# Altium schematic symbol library Connectors.SchLib: 93 symbols
Pins are listed as number, name and electrical type; pins without a type are passive.

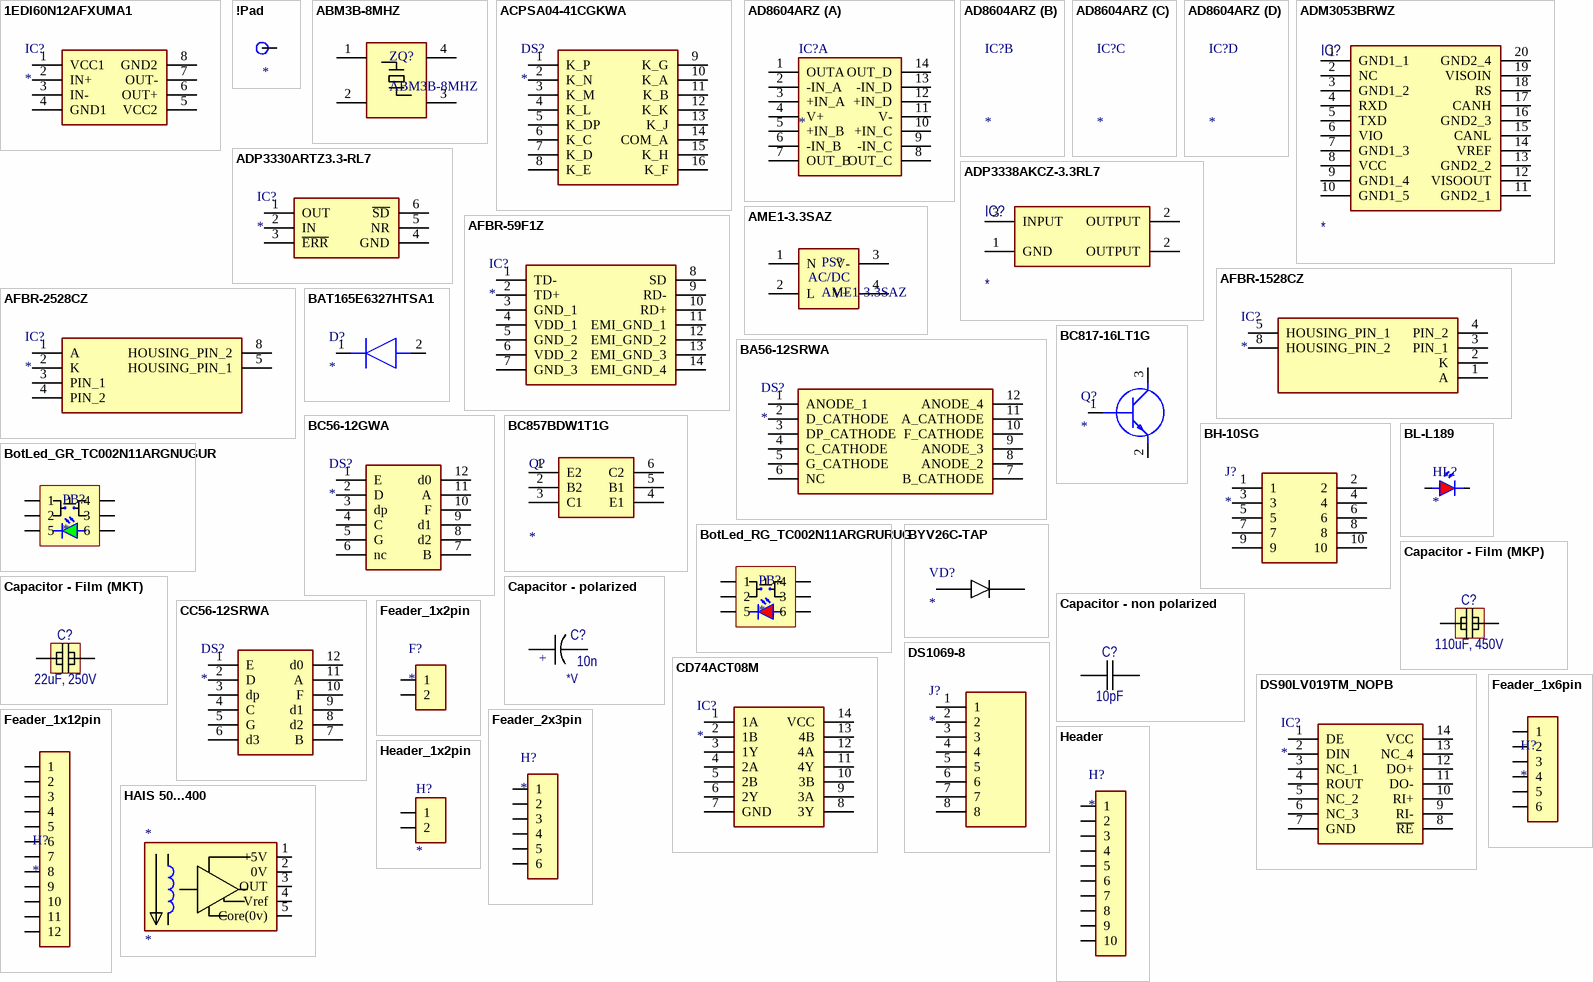
[diagram p0: symbols 1EDI60N12AFXUMA1 to Header_1x2pin]

## 1EDI60N12AFXUMA1
designator IC?
Integrated Circuit; Manufacturer_Name: Infineon; Manufacturer_Part_Number: 1EDI60N12AFXUMA1; Datasheet Link: https://www.infineon.com/dgdl/Infineon-1EDI60N12AF-DS-v02_00-EN.pdf?fileId=db3a3043427ac3e201428e5da08f372a; Height: 1.75mm; Mouser Part Number: 726-1EDI60N12AFXUMA1; Mouser Price/Stock: https://www.mouser.co.uk/ProductDetail/Infineon-Technologies/1EDI60N12AFXUMA1?qs=3Bi3m9r5MQZ%2FPKSdeeAtFg%3D%3D; Arrow Part Number: 1EDI60N12AFXUMA1; Arrow Price/Stock: https://www.arrow.com/en/products/1edi60n12afxuma1/infineon-technologies-ag?region=nac
footprint SOIC127P600X175-8N
pins: 1 VCC1, 2 IN+, 3 IN-, 4 GND1, 5 VCC2, 6 OUT+, 7 OUT-, 8 GND2

## !Pad
designator Pad?
System: Connector; NetName: *
footprint Pad_2mm
footprint Pad_3mm
footprint Pad_4mm
pins: 1

## ABM3B-8MHZ
designator ZQ?
footprint Quartz 5x3.2 mm
pins: 1, 2 GND, 3, 4 GND
2 alternate drawings of the same symbol

## ACPSA04-41CGKWA
designator DS?
Display; Manufacturer_Name: Kingbright; Manufacturer_Part_Number: ACPSA04-41CGKWA; Datasheet Link: https://datasheet.datasheetarchive.com/originals/dk/DKDS-14/260750.pdf; Height: 4mm; Mouser Part Number: 604-ACPSA04-41CGKWA; Mouser Price/Stock: https://www.mouser.co.uk/ProductDetail/Kingbright/ACPSA04-41CGKWA/?qs=f499HRGa1RkJ71DaUd7G2A%3D%3D
footprint ACPSA0441CGKWA
pins: 1 K_P, 2 K_N, 3 K_M, 4 K_L, 5 K_DP, 6 K_C, 7 K_D, 8 K_E, 9 K_G, 10 K_A, 11 K_B, 12 K_K, 13 K_J, 14 COM_A, 15 K_H, 16 K_F

## AD8604ARZ
designator IC?
Integrated Circuit; Manufacturer_Name: Analog Devices; Manufacturer_Part_Number: AD8604ARZ; Datasheet Link: http://www.analog.com/static/imported-files/data_sheets/AD8601_8602_8604.pdf; Height: 1.75mm; Mouser Part Number: 584-AD8604ARZ; Mouser Price/Stock: https://www.mouser.co.uk/ProductDetail/Analog-Devices/AD8604ARZ?qs=%2FtpEQrCGXCy16yvAUhSq%252Bg%3D%3D; Arrow Part Number: AD8604ARZ; Arrow Price/Stock: https://www.arrow.com/en/products/ad8604arz/analog-devices?region=nac
footprint SOIC127P600X175-14N
part A pins: 1 OUTA, 2 -IN_A, 3 +IN_A, 4 V+, 5 +IN_B, 6 -IN_B, 7 OUT_B, 8 OUT_C, 9 -IN_C, 10 +IN_C, 11 V-, 12 +IN_D, 13 -IN_D, 14 OUT_D
1 alternate drawing of the same symbol

## ADM3053BRWZ
designator IC?
Integrated Circuit; Manufacturer_Name: Analog Devices; Manufacturer_Part_Number: ADM3053BRWZ; Datasheet Link: https://componentsearchengine.com/Datasheets/2/ADM3053BRWZ.pdf; Height: 2.65mm; Mouser Part Number: 584-ADM3053BRWZ; Mouser Price/Stock: https://www.mouser.co.uk/ProductDetail/Analog-Devices/ADM3053BRWZ?qs=BpaRKvA4VqGZYG1hZ9cdqw%3D%3D; Arrow Part Number: ADM3053BRWZ; Arrow Price/Stock: https://www.arrow.com/en/products/adm3053brwz/analog-devices?region=nac
footprint SOIC127P1032X265-20N
pins: 1 GND1_1, 2 NC, 3 GND1_2, 4 RXD, 5 TXD, 6 VIO, 7 GND1_3, 8 VCC, 9 GND1_4, 10 GND1_5, 11 GND2_1, 12 VISOOUT, 13 GND2_2, 14 VREF, 15 CANL, 16 GND2_3, 17 CANH, 18 RS, 19 VISOIN, 20 GND2_4
1 alternate drawing of the same symbol

## ADP3330ARTZ3.3-RL7
designator IC?
Integrated Circuit; Manufacturer_Name: Analog Devices; Manufacturer_Part_Number: ADP3330ARTZ3.3-RL7; Datasheet Link: http://www.analog.com/static/imported-files/data_sheets/ADP3330.pdf; Height: 1.45mm; Mouser Part Number: 584-ADP3330ARTZ3.3R7; Mouser Price/Stock: https://www.mouser.co.uk/ProductDetail/Analog-Devices/ADP3330ARTZ33-RL7?qs=WIvQP4zGanjatFGUBQ2Z0w%3D%3D; Arrow Part Number: ADP3330ARTZ3.3-RL7; Arrow Price/Stock: https://www.arrow.com/en/products/adp3330artz3.3-rl7/analog-devices
footprint SOT95P280X145-6N
pins: 1 OUT, 2 IN, 3 ~{ERR}, 4 GND, 5 NR, 6 ~{SD}

## ADP3338AKCZ-3.3RL7
designator IC?
High Accuracy, Ultralow IQ, 1 A, anyCAP Low Dropout Regulator; Manufacturer_Name: Texas Instruments; Manufacturer_Part_Number: LM2937IMP-3.3/NOPB; Datasheet Link: https://www.ti.com/lit/ds/symlink/lm2937.pdf?ts=1607582693087&ref_url=https%253A%252F%252Fwww.ti.com%252Fsitesearch%252Fdocs%252Funiversalsearch.tsp%253FsearchTerm%253DLM2937IMP-3.3%252FNOPB; Height: 1.8mm; Mouser Part Number: 926-LM2937IMP3.3NOPB; Mouser Price/Stock: https://www.mouser.co.uk/ProductDetail/Texas-Instruments/LM2937IMP-33-NOPB/?qs=X1J7HmVL2ZFVwNOBcwuxRQ%3D%3D; Arrow Part Number: LM2937IMP-3.3/NOPB; Arrow Price/Stock: https://www.arrow.com/en/products/lm2937imp-3.3nopb/texas-instruments
footprint SOT-223 \w pad (TO-261-AA)
pins: 1 GND, 2 OUTPUT, 2 OUTPUT, 3 INPUT
1 alternate drawing of the same symbol

## AFBR-59F1Z
designator IC?
Integrated Circuit; Manufacturer_Name: Avago Technologies; Manufacturer_Part_Number: AFBR-59F1Z; Datasheet Link: https://docs.broadcom.com/docs/AV02-4107EN; Height: 11.05mm; Mouser Part Number: 630-AFBR59F1Z; Mouser Price/Stock: https://www.mouser.co.uk/ProductDetail/Broadcom-Avago/AFBR-59F1Z?qs=sfs0HZCnrVC1zkDHrQfKgA%3D%3D
footprint AFBR59F1Z
pins: 1 TD-, 2 TD+, 3 GND_1, 4 VDD_1, 5 GND_2, 6 VDD_2, 7 GND_3, 8 SD, 9 RD-, 10 RD+, 11 EMI_GND_1, 12 EMI_GND_2, 13 EMI_GND_3, 14 EMI_GND_4

## AFBR-1528CZ
designator IC?
Integrated Circuit; Manufacturer_Name: Avago Technologies; Manufacturer_Part_Number: AFBR-1528CZ; Datasheet Link: https://docs.broadcom.com/docs/pub-005757; Height: 7.6mm; Mouser Part Number: 630-AFBR-1528CZ; Mouser Price/Stock: https://www.mouser.co.uk/ProductDetail/Broadcom-Avago/AFBR-1528CZ/?qs=JUmsgfbaopQBpiKa9Md%2Flw%3D%3D
footprint AFBR1528CZ
pins: 1 A, 2 K, 3 PIN_1, 4 PIN_2, 5 HOUSING_PIN_1, 8 HOUSING_PIN_2

## AFBR-2528CZ
designator IC?
Integrated Circuit; Manufacturer_Name: Avago Technologies; Manufacturer_Part_Number: AFBR-2528CZ; Datasheet Link: https://www.mouser.com/datasheet/2/678/ub-005757_DS_AFBR-1528CZ_AFBR-2528CZ_2016-10-03-1130994.pdf; Height: 7.6mm; Mouser Part Number: 630-AFBR-2528CZ; Mouser Price/Stock: https://www.mouser.co.uk/ProductDetail/Broadcom-Avago/AFBR-2528CZ/?qs=JUmsgfbaopRCd4Yx0HH7DA%3D%3D
footprint AFBR2528CZ
pins: 1 A, 2 K, 3 PIN_1, 4 PIN_2, 5 HOUSING_PIN_1, 8 HOUSING_PIN_2

## AME1-3.3SAZ
designator PS?
AC/DC преобразователь, 1Вт, 3.3В/0.3А
footprint AME1-3.3SAZ (AC/DC, 1W, 3.3V/0.3A)
pins: 1 N (power), 2 L (power), 3 V- (power), 4 V+ (power)
text: AC/DC

## BA56-12SRWA
designator DS?
Display; Manufacturer_Name: Kingbright; Manufacturer_Part_Number: BA56-12SRWA; Datasheet Link: http://www.mouser.com/ds/2/216/BA56-12SRWA-39648.pdf; Height: 8.1mm; Mouser Part Number: 604-BA56-12SRWA; Mouser Price/Stock: https://www.mouser.co.uk/ProductDetail/Kingbright/BA56-12SRWA?qs=SxaZfIVsCL2GBVly1l0tvQ%3D%3D; Arrow Part Number: BA56-12SRWA; Arrow Price/Stock: https://www.arrow.com/en/products/ba56-12srwa/kingbright
footprint DIPS1524W50P254L3760H810Q12N
pins: 1 ANODE_1, 2 D_CATHODE, 3 DP_CATHODE, 4 C_CATHODE, 5 G_CATHODE, 6 NC, 7 B_CATHODE, 8 ANODE_2, 9 ANODE_3, 10 F_CATHODE, 11 A_CATHODE, 12 ANODE_4

## BAT165E6327HTSA1
designator D?
Diode; Manufacturer_Name: Infineon; Manufacturer_Part_Number: BAT165E6327HTSA1; Datasheet Link: https://www.infineon.com/dgdl/Infineon-BAT165SERIES-DS-v01_01-en.pdf?fileId=db3a304313d846880113df01f69804d6; Height: 1.1mm; Mouser Part Number: 726-BAT165E6327HTSA1; Mouser Price/Stock: https://www.mouser.co.uk/ProductDetail/Infineon-Technologies/BAT165E6327HTSA1?qs=K00xGehIljtOiGvGDAvWFg%3D%3D; Arrow Part Number: BAT165E6327HTSA1; Arrow Price/Stock: https://www.arrow.com/en/products/bat165e6327htsa1/infineon-technologies-ag?region=nac
footprint SOD2513X110N
pins: 1 K, 2 A

## BC56-12GWA
designator DS?
Display; Manufacturer_Name: Kingbright; Manufacturer_Part_Number: BC56-12GWA; Datasheet Link: http://www.kingbrightusa.com/images/catalog/SPEC/BC56-12GWA.pdf; Height: 8.1mm; Mouser Part Number: 604-BC5612GWA; Mouser Price/Stock: https://www.mouser.co.uk/ProductDetail/Kingbright/BC56-12GWA?qs=SxaZfIVsCL3Rcc8EwS8sgA%3D%3D
footprint BA56-12SRWA (Индикатор 14.2мм 3х7 красный ОК, 24мКд)
pins: 1 E, 2 D, 3 dp, 4 C, 5 G, 6 nc, 7 B, 8 d2, 9 d1, 10 F, 11 A, 12 d0

## BC817-16LT1G
designator Q?
Transistor BJT NPN; Manufacturer_Name: ON Semiconductor; Manufacturer_Part_Number: BC817-16LT1G; Datasheet Link: http://www.onsemi.com/pub/Collateral/BC817-16LT1-D.PDF; Height: 1.11mm; Mouser Part Number: 863-BC817-16LT1G; Mouser Price/Stock: https://www.mouser.co.uk/ProductDetail/ON-Semiconductor/BC817-16LT1G/?qs=vNc2DXHODiKRUuEF76D%2FVQ%3D%3D; Arrow Part Number: BC817-16LT1G; Arrow Price/Stock: https://www.arrow.com/en/products/bc817-16lt1g/on-semiconductor
footprint SOT96P237X111-3N
pins: 1 B, 2 E, 3 C

## BC857BDW1T1G
designator Q?
Transistor; Manufacturer_Name: ON Semiconductor; Manufacturer_Part_Number: BC857BDW1T1G; Datasheet Link: http://www.onsemi.com/pub/Collateral/BC856BDW1T1-D.PDF; Height: 1.1mm; Mouser Part Number: 863-BC857BDW1T1G; Mouser Price/Stock: https://www.mouser.co.uk/ProductDetail/ON-Semiconductor/BC857BDW1T1G/?qs=vNc2DXHODiJHpe2zaM6lCA%3D%3D; Arrow Part Number: BC857BDW1T1G; Arrow Price/Stock: https://www.arrow.com/en/products/bc857bdw1t1g/on-semiconductor
footprint SOT-363 (SC?88/SC70?6)
pins: 1 E2, 2 B2, 3 C1, 4 E1, 5 B1, 6 C2
2 alternate drawings of the same symbol

## BH-10SG
designator J?
Connector; Manufacturer_Name: Useconn Electronics; Manufacturer_Part_Number: BH-10SG; Datasheet Link: http://akizukidenshi.com/download/ds/useconn/BH-XXSG.pdf; Height: 9.1mm
footprint SHDR10W64P254_2X5_2032X910X910P
pins: 1, 2, 3, 4, 5, 6, 7, 8, 9, 10

## BL-L189
designator HL?
Betlux Electronics
footprint 1.8x1.4_LED_Blu_FlatTop
footprint 1.8x1.4_LED_Gre_FlatTop
footprint 1.8x1.4_LED_Red_FlatTop
footprint 1.8x1.4_LED_Yel_FlatTop
footprint 1.8x1.4_LED_Red_FlatTop_Tilted
pins: 1, 2
3 alternate drawings of the same symbol

## BotLed_GR_TC002N11ARGNUGUR
designator PB?
footprint BotLed_GR_TC002N11ARGNUGUR
pins: 1, 2, 3, 4, 5, 6

## BotLed_RG_TC002N11ARGRURUG
designator PB?
footprint BotLed_RG_TC002N11ARGRURUG
pins: 1, 2, 3, 4, 5, 6

## BYV26C-TAP
designator VD?
Integrated Circuit; Manufacturer_Name: Vishay; Manufacturer_Part_Number: BYV26C-TAP; Datasheet Link: https://componentsearchengine.com/Datasheets/2/BYV26C-TAP.pdf; Mouser Part Number: 78-BYV26C-TAP; Mouser Price/Stock: https://www.mouser.co.uk/ProductDetail/Vishay-Semiconductors/BYV26C-TAP?qs=MEEM2Ld9hedpj36GmbfoWg%3D%3D; Arrow Part Number: BYV26C-TAP; Arrow Price/Stock: https://www.arrow.com/en/products/byv26c-tap/vishay?region=europe
footprint DIOAD1840W82L400D360
pins: 1 K, 2 A

## Capacitor - Film (MKP)
designator C?, comment 110uF, 450V
Metallized Polypropylene Film Capacitors (MKP) Series/Type: B32774 ... B32778, B32778G4117K000 --- w- 35.0 × h-50.0 × l-57.5, 4 pin 52.5x20.3; Value: 110uF, 450V
footprint B32778G4117K000 (110 uF, 450 V)
pins: 1, 2

## Capacitor - Film (MKT)
designator C?, comment 22uF, 250V
Metallized Polyester Film Capacitors (MKT) Series/Type: B32520 ... B32529, B32526R3226+ --- w-16.0 ×h- 28.5 × l- 41.5, 2 pin -- 37.5.; Value: 22uF, 250V; Dims: w-16.0 ×h- 28.5 × l- 41.5, 2 pin -- 37.5.
footprint B32526R3226K000
pins: 1, 2

## Capacitor - non polarized
designator C?, comment 10pF
Non-polarised capacitor; Value: 10pF
footprint C_0603 (Chip Capacitor, Body 1.0x0.55mm, IPC Medium Density)
pins: 1, 2

## Capacitor - polarized
designator C?, comment 10n  Volt: *V
Polarised capacitor; Value: 10n
footprint C_3216_1206_TypeA (Capacitor, Polarized, Molded  Body 3.2x1.6mm, IPC Medium Density)
pins: 1, 2
text: +

## CC56-12SRWA
designator DS?
Индикатор 14.2мм 4х7 красный ОК, 24мКд; Manufacturer_Name: Kingbright; Manufacturer_Part_Number: BC56-12GWA; Datasheet Link: http://www.kingbrightusa.com/images/catalog/SPEC/BC56-12GWA.pdf; Height: 8.1mm; Mouser Part Number: 604-BC5612GWA; Mouser Price/Stock: https://www.mouser.co.uk/ProductDetail/Kingbright/BC56-12GWA?qs=SxaZfIVsCL3Rcc8EwS8sgA%3D%3D
footprint CC56-12SRWA (Индикатор 14.2мм 4х7 красный ОК, 24мКд)
pins: 1 E, 2 D, 3 dp, 4 C, 5 G, 6 d3, 7 B, 8 d2, 9 d1, 10 F, 11 A, 12 d0

## CD74ACT08M
designator IC?
Integrated Circuit; Manufacturer_Name: Texas Instruments; Manufacturer_Part_Number: CD74ACT08M; Datasheet Link: http://www.ti.com/lit/ds/symlink/cd74act08.pdf; Height: 1.75mm; Mouser Part Number: 595-CD74ACT08M; Mouser Price/Stock: https://www.mouser.co.uk/ProductDetail/Texas-Instruments/CD74ACT08M?qs=Dqy2GfToSoQdsNWXM2phYA%3D%3D
footprint SOIC127P600X175-14N
pins: 1 1A, 2 1B, 3 1Y, 4 2A, 5 2B, 6 2Y, 7 GND, 8 3Y, 9 3A, 10 3B, 11 4Y, 12 4A, 13 4B, 14 VCC

## DS90LV019TM_NOPB
designator IC?
Integrated Circuit; Manufacturer_Name: Texas Instruments; Manufacturer_Part_Number: DS90LV019TM/NOPB; Datasheet Link: http://www.ti.com/lit/ds/symlink/ds90lv019.pdf; Height: 1.753mm; Mouser Part Number: 926-DS90LV019TM/NOPB; Mouser Price/Stock: https://www.mouser.co.uk/ProductDetail/Texas-Instruments/DS90LV019TM-NOPB/?qs=X1J7HmVL2ZGe7r2ju2VEQw%3D%3D; Arrow Part Number: DS90LV019TM/NOPB; Arrow Price/Stock: https://www.arrow.com/en/products/ds90lv019tmnopb/texas-instruments
footprint SOIC127P599X175-14N
pins: 1 DE, 2 DIN, 3 NC_1, 4 ROUT, 5 NC_2, 6 NC_3, 7 GND, 8 ~{RE}, 9 RI-, 10 RI+, 11 DO-, 12 DO+, 13 NC_4, 14 VCC

## DS1069-8
designator J?
Connector; Manufacturer_Name: Connfly; Manufacturer_Part_Number: DS1069-8; Datasheet Link: https://static.chipdip.ru/lib/413/DOC001413777.pdf; Height: 7mm
footprint DS1069-8
footprint DS1069-8_ang
footprint DS1069-8-MR
pins: 1, 2, 3, 4, 5, 6, 7, 8

## Feader_1x2pin
designator F?
PLD-2 w\o header!; Parameter 1: 444
footprint Feader_1x2 (4 Contacts - Pitch 2.54mm - Dual Row Through Mount Straight Header (Post Lead = 6.35mm, Tail Lead 3.05mm, Insulator 1.52mm))
pins: 1, 2
1 alternate drawing of the same symbol

## Feader_1x6pin
designator H?
PLD-6 w\o header!; Parameter 1: 444
footprint Feader_1x6 (6 Contacts - Pitch 2.54mm - Dual Row Through Mount Straight Header (Post Lead = 6.35mm, Tail Lead 3.05mm, Insulator 1.52mm))
footprint Feader_1x6_1.27 (6 Contacts - Pitch 1.27mm - Dual Row Through Mount Straight Header (Post Lead = 6.35mm, Tail Lead 3.05mm, Insulator 1.52mm))
pins: 1, 2, 3, 4, 5, 6
1 alternate drawing of the same symbol

## Feader_1x12pin
designator H?
PLD-12 w\o header!; Parameter 1: 444
footprint Feader_1x12 (6 Contacts - Pitch 2.54mm - Dual Row Through Mount Straight Header (Post Lead = 6.35mm, Tail Lead 3.05mm, Insulator 1.52mm))
pins: 1, 2, 3, 4, 5, 6, 7, 8, 9, 10, 11, 12
1 alternate drawing of the same symbol

## Feader_2x3pin
designator H?
BH-6, IDC-6, DS-1013-06S; Parameter 1: 444
footprint Feader_2x3 (6 Contacts - Pitch 2.54mm - Dual Row Through Mount Straight Header (Post Lead = 6.35mm, Tail Lead 3.05mm, Insulator 1.52mm))
pins: 1, 2, 3, 4, 5, 6
1 alternate drawing of the same symbol

## HAIS 50...400
designator *
footprint HAIS 50..400-P
pins: 1 +5V, 2 0V, 3 OUT, 4 Vref, 5 Core(0v)

## Header
designator H?
Parameter 1: 444
pins: 1, 2, 3, 4, 5, 6, 7, 8, 9, 10
1 alternate drawing of the same symbol

## Header_1x2pin
designator H?
PLD-2; System: Connector
footprint Header_1x2_PLD (4 Contacts - Pitch 2.54mm - Dual Row Through Mount Straight Header (Post Lead = 6.35mm, Tail Lead 3.05mm, Insulator 1.52mm))
pins: 1, 2
2 alternate drawings of the same symbol

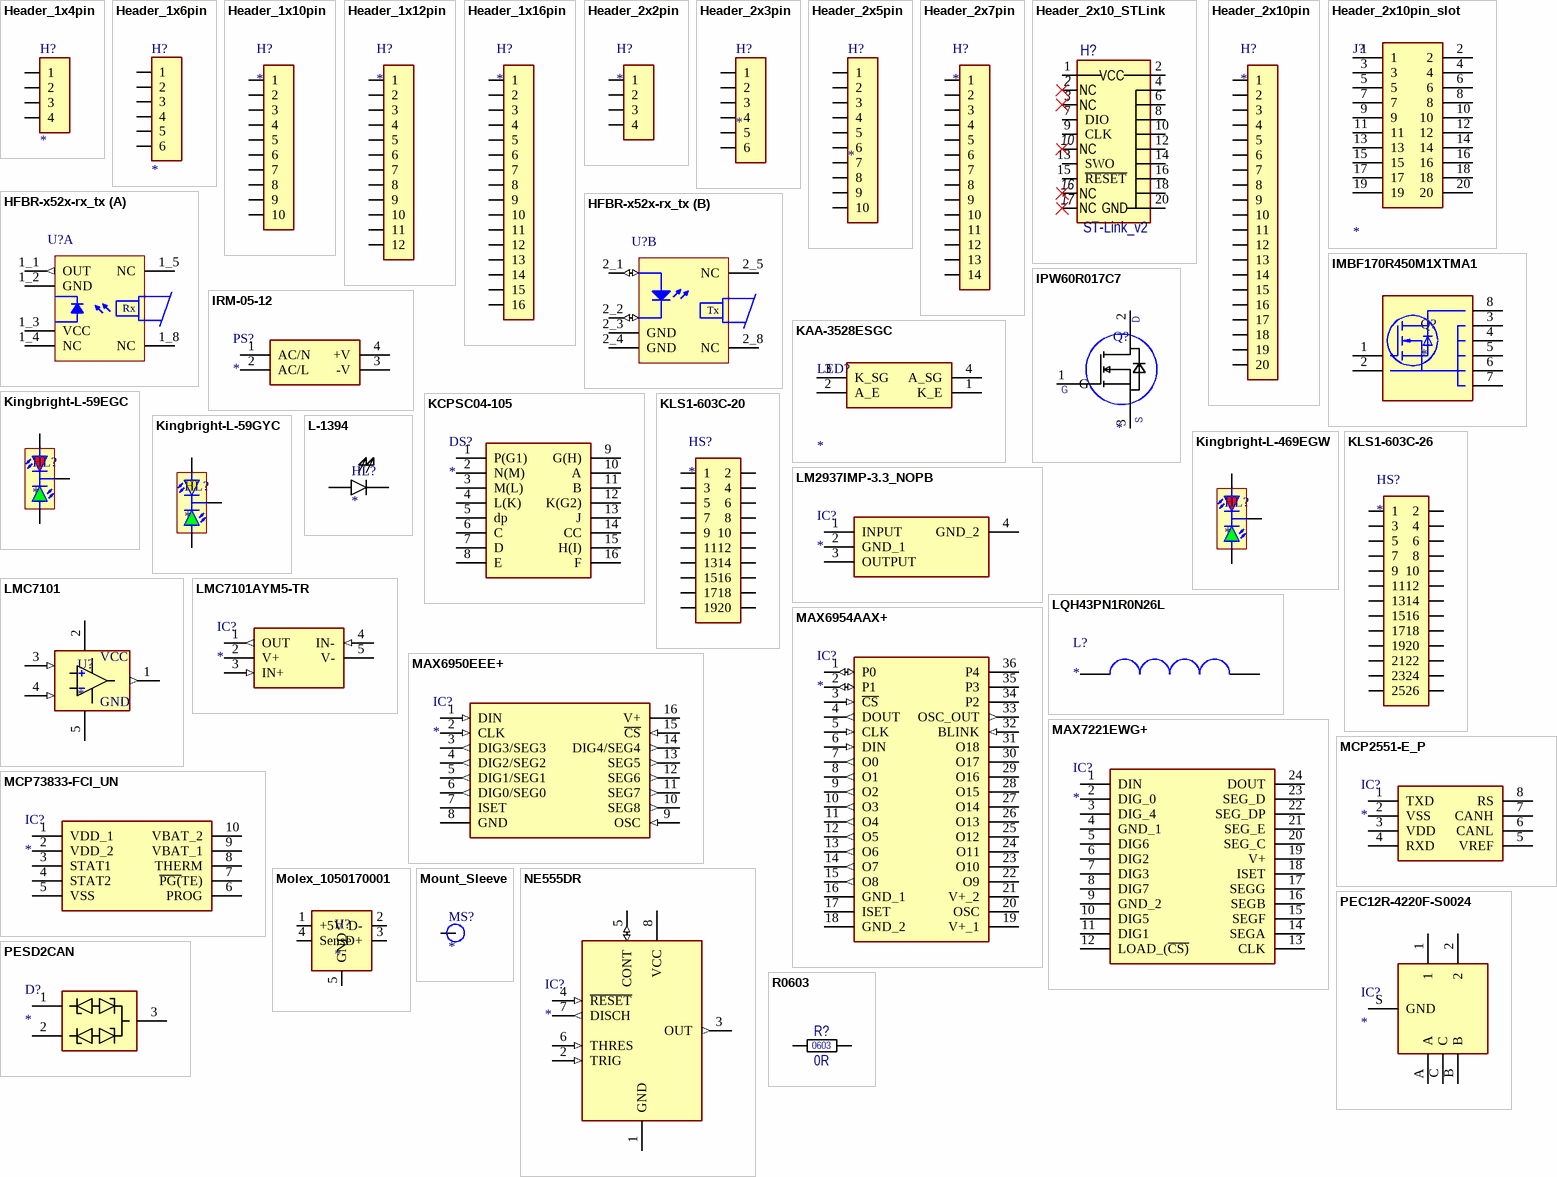
[diagram p1: symbols Header_1x4pin to R0603]

## Header_1x4pin
designator H?
WF-4R (DS1070-4 MR), PLD-4; System: Connector
footprint Header_1x4_WF-4R (4 Contacts - Pitch 2.54mm - Dual Row Through Mount Straight Header (Post Lead = 6.35mm, Tail Lead 3.05mm, Insulator 1.52mm))
footprint Header_1x4_PLD (6 Contacts - Pitch 2.54mm - Single Row Through Mount Straight Header (Post Lead = 6.35mm, Tail Lead 3.05mm, Insulator 1.52mm))
pins: 1, 2, 3, 4
2 alternate drawings of the same symbol

## Header_1x6pin
designator H?
PLD-6; System: Connector
footprint Header_1x6_PLD (6 Contacts - Pitch 2.54mm - Single Row Through Mount Straight Header (Post Lead = 6.35mm, Tail Lead 3.05mm, Insulator 1.52mm))
pins: 1, 2, 3, 4, 5, 6

## Header_1x10pin
designator H?
PLS-10(R) (DS-1022-1x10); System: Connector
footprint Header_1x10_PLD_ang
pins: 1, 2, 3, 4, 5, 6, 7, 8, 9, 10
1 alternate drawing of the same symbol

## Header_1x12pin
designator H?
PLS-12(R) (DS-1022-1x12); System: Connector
footprint Header_1x12_PBS
footprint Header_1x12_PLD
pins: 1, 2, 3, 4, 5, 6, 7, 8, 9, 10, 11, 12
1 alternate drawing of the same symbol

## Header_1x16pin
designator H?
PLS-16(R) (DS-1022-1x16); System: Connector
footprint Header_1x16_PLS_ang
footprint Header_1x16_PLS_ang R2
pins: 1, 2, 3, 4, 5, 6, 7, 8, 9, 10, 11, 12, 13, 14, 15, 16
1 alternate drawing of the same symbol

## Header_2x2pin
designator H?
PLD-4; System: Connector
footprint Header_2x2_PLD (4 Contacts - Pitch 2.54mm - Dual Row Through Mount Straight Header (Post Lead = 6.35mm, Tail Lead 3.05mm, Insulator 1.52mm))
pins: 1, 2, 3, 4
1 alternate drawing of the same symbol

## Header_2x3pin
designator H?
BH-6, IDC-6, DS-1013-06S; System: Connector
footprint Header_2x3_BH (BH-6_IDC-6_DS-1013-06S)
footprint Header_2x3_BH_ang (BH-6R_IDC-6MR_DS-1013-06R)
footprint Header_2x3_PLD (6 Contacts - Pitch 2.54mm - Dual Row Through Mount Straight Header (Post Lead = 6.35mm, Tail Lead 3.05mm, Insulator 1.52mm))
footprint Header_2x3_PLD_ang
pins: 1, 2, 3, 4, 5, 6
2 alternate drawings of the same symbol

## Header_2x5pin
designator H?
BH-10, IDC-10, DS-1013-10S; System: Connector
footprint Header_2x5_BH (BH-10_IDC-10_DS-1013-10S)
footprint Header_2x5_PLD (6 Contacts - Pitch 2.54mm - Dual Row Through Mount Straight Header (Post Lead = 6.35mm, Tail Lead 3.05mm, Insulator 1.52mm))
footprint Header_2x5_PLD_ang
pins: 1, 2, 3, 4, 5, 6, 7, 8, 9, 10
2 alternate drawings of the same symbol

## Header_2x7pin
designator H?
BH-14, IDC-14, DS-1013-14S; System: Connector
footprint Header_2x7 (BH-14_IDC-14_DS-1013-14S)
footprint Header_2x7_PLD (6 Contacts - Pitch 2.54mm - Dual Row Through Mount Straight Header (Post Lead = 6.35mm, Tail Lead 3.05mm, Insulator 1.52mm))
pins: 1, 2, 3, 4, 5, 6, 7, 8, 9, 10, 11, 12, 13, 14
1 alternate drawing of the same symbol

## Header_2x10_STLink
designator H?, comment ST-Link_v2
BH-20, IDC-20, DS-1013-20S; System: Connector
footprint Header_2x10_PLD (6 Contacts - Pitch 2.54mm - Dual Row Through Mount Straight Header (Post Lead = 6.35mm, Tail Lead 3.05mm, Insulator 1.52mm))
footprint Header_2x10_PLD_ang
pins: 1 VCC, 2 VCC, 4 VCC, 6 VCC, 7 DIO, 8 VCC, 9 CLK, 10 VCC, 12 VCC, 13 SWO, 14 VCC, 15 ~{RESET}, 16 VCC, 18 VCC, 20
text: NC; 3; 17; GND

## Header_2x10pin
designator H?
BH-20, IDC-20, DS-1013-20S; System: Connector
footprint Header_2x10_PLD (6 Contacts - Pitch 2.54mm - Dual Row Through Mount Straight Header (Post Lead = 6.35mm, Tail Lead 3.05mm, Insulator 1.52mm))
footprint Header_2x10_PLD_ang
pins: 1, 2, 3, 4, 5, 6, 7, 8, 9, 10, 11, 12, 13, 14, 15, 16, 17, 18, 19, 20
1 alternate drawing of the same symbol

## Header_2x10pin_slot
designator J?
Connector; Manufacturer_Name: Connfly; Manufacturer_Part_Number: DS1069-8; Datasheet Link: https://static.chipdip.ru/lib/413/DOC001413777.pdf; Height: 7mm; System: Connector
footprint Header_2x10_PLD_slot (6 Contacts - Pitch 2.54mm - Dual Row Through Mount Straight Header (Post Lead = 6.35mm, Tail Lead 3.05mm, Insulator 1.52mm))
pins: 1, 2, 3, 4, 5, 6, 7, 8, 9, 10, 11, 12, 13, 14, 15, 16, 17, 18, 19, 20
1 alternate drawing of the same symbol

## HFBR-x52x-rx_tx
designator U?
footprint HFBR-x52x-rx_tx (HFBR-0500Z Series, Fiber Optic Transmitter or Receiver, Through Hole Mount)
footprint HFBR-x52x-rx_tx_BL (HFBR-0500Z Series, Fiber Optic Transmitter adn Receiver, Through Hole Mount)
part A pins: 1_1 OUT (out), 1_2 GND (power), 1_3 VCC (power), 1_4 NC, 1_5 NC, 1_8 NC
part B pins: 2_1 A (io), 2_2 C (io), 2_3 GND, 2_4 GND, 2_5 NC, 2_8 NC
part A text: Rx
part B text: Tx

## IMBF170R450M1XTMA1
designator Q?
MOSFET (N-Channel); Manufacturer_Name: Infineon; Manufacturer_Part_Number: IMBF170R450M1XTMA1; Datasheet Link: https://www.infineon.com/dgdl/Infineon-IMBF170R450M1-DataSheet-v02_01-EN.pdf?fileId=5546d462712ef9b70171820c850e1ad9; Height: 4.7mm; Mouser Part Number: 726-IMBF170R450M1XTM; Mouser Price/Stock: https://www.mouser.co.uk/ProductDetail/Infineon-Technologies/IMBF170R450M1XTMA1?qs=GedFDFLaBXFtPqcGQB0Feg%3D%3D; Arrow Part Number: IMBF170R450M1XTMA1; Arrow Price/Stock: https://www.arrow.com/en/products/imbf170r450m1xtma1/infineon-technologies-ag
footprint IMBF170R450M1XTMA1
pins: 1 GATE, 2 SENSE, 3 SOURCE_1, 4 SOURCE_2, 5 SOURCE_3, 6 SOURCE_4, 7 SOURCE_5, 8 DRAIN

## IPW60R017C7
designator Q?
MOSFET (N-Channel); Manufacturer_Name: Infineon; Manufacturer_Part_Number: IPW60R017C7; Height: 5.21mm; Mouser Part Number: N/A; Mouser Price/Stock: https://www.mouser.com/Search/Refine.aspx?Keyword=N%2FA
footprint TO-247_mid_line
footprint TO-247_mar_line
footprint TO-247_back_mid_line
pins: 1 G, 2 D, 3 S
2 alternate drawings of the same symbol

## IRM-05-12
designator PS?
Power Supply; Manufacturer_Name: Mean Well; Manufacturer_Part_Number: IRM-05-12; Datasheet Link: https://www.meanwell-web.com/content/files/pdfs/productPdfs/MW/IRM-05-spec.pdf; Mouser Part Number: 709-IRM05-12; Mouser Price/Stock: https://www.mouser.co.uk/ProductDetail/MEAN-WELL/IRM-05-12/?qs=WkdRfq4wf1P6e%2FlUvY44jA%3D%3D; Arrow Part Number: IRM-05-12; Arrow Price/Stock: https://www.arrow.com/en/products/irm-05-12/mean-well-enterprises
footprint IRM-05-3.3_1
pins: 1 AC/N, 2 AC/L, 3 -V, 4 +V

## KAA-3528ESGC
designator LED?
Double LED SMD; Manufacturer_Name: Kingbright; Manufacturer_Part_Number: KAA-3528ESGC; Datasheet Link: http://www.farnell.com/datasheets/68663.pdf; Height: 2.1mm; Mouser Part Number: N/A; Mouser Price/Stock: https://www.mouser.co.uk/ProductDetail/Kingbright/KAA-3528ESGC?qs=f6khj2Jg0FhBdxfzU38%2F0Q%3D%3D; Arrow Part Number: KAA-3528ESGC; Arrow Price/Stock: https://www.arrow.com/en/products/kaa-3528esgc/kingbright
footprint KAA3528ESGC
pins: 1 K_E, 2 A_E, 3 K_SG, 4 A_SG
2 alternate drawings of the same symbol

## KCPSC04-105
designator DS?
Display; Manufacturer_Name: Kingbright; Manufacturer_Part_Number: KCPSC04-105; Datasheet Link: http://www.kingbright.com/attachments/file/psearch/000/00/00/KCPSC04-105(Ver.8A).pdf; Height: 3.75mm; Mouser Part Number: N/A; Mouser Price/Stock: https://www.mouser.com/Search/Refine.aspx?Keyword=N%2FA
footprint KCPSC04105
footprint KCPSC04105 - internal
footprint KCPSC04105 - int_Extr_via
pins: 1 P(G1), 2 N(M), 3 M(L), 4 L(K), 5 dp, 6 C, 7 D, 8 E, 9 G(H), 10 A, 11 B, 12 K(G2), 13 J, 14 CC, 15 H(I), 16 F

## Kingbright-L-59EGC
designator HL?
L-59EGC является двухцветным индикаторным светодиодом с прозрачной линзой, THT, круглым профилем, мощностью света 150мкд, углом обзора 24°, длиной волны 625нм и 568нм. Высокая эффективность источника красного цвета обеспечивается GaAsP на GaP. Источник света зеленого цвета изготовлено из фосфида галлия.
footprint Kingbright-L-59EGC (Kingbright-Dual-LED-r/g)
pins: 1, 2, 3

## Kingbright-L-59GYC
designator HL?
L-59GYC, Светодиод зеленый/желтый 24° d=5мм 100/60мКд 568/588нМ
footprint Kingbright-L-59GYC (Kingbright-Dual-LED-y/g)
pins: 1, 2, 3

## Kingbright-L-469EGW
designator HL?
L-469EGW. светодиод красный /зеленый d=3мм 15/10мКд Цвета свечения красный, зелёный, Длина волны 1 цвета 627 нм, Сила света 1 кристалла 15 мкд, Угол по оризонтали 100 °, Тип линзы белая, матовая
footprint Kingbright-L-469EGW (Kingbright-Dual-LED-r/g)
pins: 1, 2, 3

## KLS1-603C-20
designator HS?
20 pin slot
footprint KLS1-603C-20
pins: 1, 2, 3, 4, 5, 6, 7, 8, 9, 10, 11, 12, 13, 14, 15, 16, 17, 18, 19, 20

## KLS1-603C-26
designator HS?
26 pin slot
footprint KLS1-603C-26
footprint KLS1-603C-26-TOP
pins: 1, 2, 3, 4, 5, 6, 7, 8, 9, 10, 11, 12, 13, 14, 15, 16, 17, 18, 19, 20, 21, 22, 23, 24, 25, 26

## L-1394
designator HL?
2mm FLAT TOP LED LAMP
footprint 5.5x2x3.8_LED_RED (2mm FLAT TOP LED LAMP)
footprint 5.5x2x3.8_LED_YEL (2mm FLAT TOP LED LAMP)
pins: 1 A, 2 C

## LM2937IMP-3.3_NOPB
designator IC?
Integrated Circuit; Manufacturer_Name: Texas Instruments; Manufacturer_Part_Number: LM2937IMP-3.3/NOPB; Datasheet Link: https://www.ti.com/lit/ds/symlink/lm2937.pdf?ts=1607582693087&ref_url=https%253A%252F%252Fwww.ti.com%252Fsitesearch%252Fdocs%252Funiversalsearch.tsp%253FsearchTerm%253DLM2937IMP-3.3%252FNOPB; Height: 1.8mm; Mouser Part Number: 926-LM2937IMP3.3NOPB; Mouser Price/Stock: https://www.mouser.co.uk/ProductDetail/Texas-Instruments/LM2937IMP-33-NOPB/?qs=X1J7HmVL2ZFVwNOBcwuxRQ%3D%3D; Arrow Part Number: LM2937IMP-3.3/NOPB; Arrow Price/Stock: https://www.arrow.com/en/products/lm2937imp-3.3nopb/texas-instruments
footprint SOT230P700X180-4N
pins: 1 INPUT, 2 GND_1, 3 OUTPUT, 4 GND_2

## LMC7101
designator U?
Single, CMOS, 1MHz, Rail-to-Rail In/Out Operational Amplifier
footprint SOT23-5
pins: 1 OUT (out), 2 V+ (power), 3 IN+ (in), 4 IN- (in), 5 V- (power)
text: VCC; GND

## LMC7101AYM5-TR
designator IC?
Integrated Circuit; Manufacturer_Name: Microchip; Manufacturer_Part_Number: LMC7101AYM5-TR; Datasheet Link: http://ww1.microchip.com/downloads/en/DeviceDoc/lmc7101.pdf; Height: 1.3mm; Mouser Part Number: 998-LMC7101AYM5TR; Mouser Price/Stock: https://www.mouser.co.uk/ProductDetail/Microchip-Technology-Micrel/LMC7101AYM5-TR?qs=Y3Q3JoKAO1Qdmu3Nuqy2dQ%3D%3D
footprint SOT95P280X130-5N
pins: 1 OUT (out), 2 V+ (power), 3 IN+ (in), 4 IN- (in), 5 V- (power)

## LQH43PN1R0N26L
designator L?
Inductor; Manufacturer_Name: Murata Electronics; Manufacturer_Part_Number: LQH43PN1R0N26L; Datasheet Link: https://psearch.en.murata.com/inductor/product/LQH43PN1R0N26%23.html; Height: 2.8mm; Mouser Part Number: 81-LQH43PN1R0N26L; Mouser Price/Stock: https://www.mouser.co.uk/ProductDetail/Murata-Electronics/LQH43PN1R0N26L?qs=Gufeu08L%2Fl2XSyiKW%252BVtsA%3D%3D; Arrow Part Number: LQH43PN1R0N26L; Arrow Price/Stock: https://www.arrow.com/en/products/lqh43pn1r0n26l/murata-manufacturing
footprint LQH43MN470K03L
pins: 1, 2

## MAX6950EEE+
designator IC?
Integrated Circuit; Manufacturer_Name: Maxim Integrated; Manufacturer_Part_Number: MAX6950EEE+; Datasheet Link: http://docs-emea.rs-online.com/webdocs/0f72/0900766b80f72b37.pdf; Height: 1.73mm; Mouser Part Number: 700-MAX6950EEE; Mouser Price/Stock: https://www.mouser.co.uk/ProductDetail/Maxim-Integrated/MAX6950EEE%2b?qs=p6VZ%252BklCkRS56WQh1hRPuA%3D%3D
footprint SOP64P602X173-16N
pins: 1 DIN (in), 2 CLK (in), 3 DIG3/SEG3 (out), 4 DIG2/SEG2 (out), 5 DIG1/SEG1 (out), 6 DIG0/SEG0 (out), 7 ISET, 8 GND (power), 9 OSC (in), 10 SEG8 (out), 11 SEG7 (out), 12 SEG6 (out), 13 SEG5 (out), 14 DIG4/SEG4 (out), 15 ~{CS} (in), 16 V+ (power)

## MAX6954AAX+
designator IC?
Integrated Circuit; Manufacturer_Name: Maxim Integrated; Manufacturer_Part_Number: MAX6954AAX+; Datasheet Link: http://datasheets.maximintegrated.com/en/ds/MAX6954.pdf; Height: 2.64mm; Mouser Part Number: 700-MAX6954AAX; Mouser Price/Stock: https://www.mouser.co.uk/ProductDetail/Maxim-Integrated/MAX6954AAX%2b/?qs=1THa7WoU59HhfWPau0CYaQ%3D%3D
footprint SOP80P1030X264-36N
pins: 1 P0 (io), 2 P1 (io), 3 ~{CS} (in), 4 DOUT (out), 5 CLK (in), 6 DIN (in), 7 O0 (out), 8 O1 (out), 9 O2 (out), 10 O3 (out), 11 O4 (out), 12 O5 (out), 13 O6 (out), 14 O7 (out), 15 O8 (out), 16 GND_1 (power), 17 ISET, 18 GND_2 (power), 19 V+_1, 20 OSC, 21 V+_2, 22 O9, 23 O10, 24 O11, 25 O12, 26 O13, 27 O14, 28 O15, 29 O16, 30 O17, 31 O18, 32 BLINK (in), 33 OSC_OUT (out), 34 P2, 35 P3, 36 P4

## MAX7221EWG+
designator IC?
Integrated Circuit; Manufacturer_Name: Maxim Integrated; Manufacturer_Part_Number: MAX7221EWG+; Datasheet Link: http://datasheets.maximintegrated.com/en/ds/MAX7219-MAX7221.pdf; Height: 2.65mm; Mouser Part Number: 700-MAX7221EWG; Mouser Price/Stock: https://www.mouser.co.uk/ProductDetail/Maxim-Integrated/MAX7221EWG%2b?qs=1THa7WoU59EcwjgGV%252Bu7MA%3D%3D
footprint SOIC127P1032X265-24N
pins: 1 DIN, 2 DIG_0, 3 DIG_4, 4 GND_1, 5 DIG6, 6 DIG2, 7 DIG3, 8 DIG7, 9 GND_2, 10 DIG5, 11 DIG1, 12 LOAD_(~{CS)}, 13 CLK, 14 SEGA, 15 SEGF, 16 SEGB, 17 SEGG, 18 ISET, 19 V+, 20 SEG_C, 21 SEG_E, 22 SEG_DP, 23 SEG_D, 24 DOUT

## MCP2551-E_P
designator IC?
Integrated Circuit; Manufacturer_Name: Microchip; Manufacturer_Part_Number: MCP2551-E/P; Datasheet Link: http://componentsearchengine.com/Datasheets/1/MCP2551-E_P.pdf; Height: 4.32mm; Mouser Part Number: 579-MCP2551-E/P; Mouser Price/Stock: https://www.mouser.co.uk/ProductDetail/Microchip-Technology/MCP2551-E-P/?qs=0st6i8lJel5By%2FScxOd%2FTw%3D%3D; Arrow Part Number: MCP2551-E/P; Arrow Price/Stock: https://www.arrow.com/en/products/mcp2551-ep/microchip-technology
footprint SOIC127P600X175-8N
pins: 1 TXD, 2 VSS, 3 VDD, 4 RXD, 5 VREF, 6 CANL, 7 CANH, 8 RS

## MCP73833-FCI_UN
designator IC?
Integrated Circuit; Manufacturer_Name: Microchip; Manufacturer_Part_Number: MCP73833-FCI/UN; Datasheet Link: http://docs-emea.rs-online.com/webdocs/0d2b/0900766b80d2b5f2.pdf; Height: 1.1mm; Mouser Part Number: 579-MCP73833-FCI/UN; Mouser Price/Stock: https://www.mouser.co.uk/ProductDetail/Microchip-Technology/MCP73833-FCI-UN?qs=jZi1jxfVU96PZdBhDFXCmg%3D%3D; Arrow Part Number: MCP73833-FCI/UN; Arrow Price/Stock: https://www.arrow.com/en/products/mcp73833-fciun/microchip-technology
footprint SOP50P490X110-10N
pins: 1 VDD_1, 2 VDD_2, 3 STAT1, 4 STAT2, 5 VSS, 6 PROG, 7 ~{PG(}TE), 8 THERM, 9 VBAT_1, 10 VBAT_2

## Molex_1050170001
designator H?
Micro-USB B Receptacle, Bottom Mount, Surface Mount, with Solder Tabs, Lead-Free; ComponentLink1Description: Molex_1050170001; ComponentLink1URL: https://www.molex.com/molex/products/part-detail/io_connectors/1050170001
footprint Molex_1050170001 (uUSB)
pins: 1 +5V, 2 D-, 3 D+, 4 Sense, 5 GND

## Mount_Sleeve
designator MS?
footprint Mount_sleeve (1,5 mm offset, 6mm length, 5 mm dia)
footprint Mount_Vert (1,5 mm offset, 6mm length, 5 mm dia)
pins: 1

## NE555DR
designator IC?
Integrated Circuit; Manufacturer_Name: Texas Instruments; Manufacturer_Part_Number: NE555DR; Datasheet Link: http://www.ti.com/lit/ds/symlink/ne555.pdf; Height: 1.75mm; Mouser Part Number: 595-NE555DR; Mouser Price/Stock: https://www.mouser.com/Search/Refine.aspx?Keyword=595-NE555DR; RS Part Number: 1218414; RS Price/Stock: http://uk.rs-online.com/web/p/products/1218414
footprint SOIC127P600X175-8N
pins: 1 GND (power), 2 TRIG (in), 3 OUT (out), 4 ~{RESET} (in), 5 CONT (io), 6 THRES (in), 7 DISCH (out), 8 VCC (power)

## PEC12R-4220F-S0024
designator IC?
Bourns Inc. Encoder; Manufacturer_Part_Number: PEC12R-4220F-S0024; Datasheet Link: https://componentsearchengine.com/Datasheets/5/PEC12R-4220F-S0024.pdf; Height: 20mm; Manufacturer_Name: Bourns; Mouser Part Number: 652-PEC12R-4220F-S24; Mouser Price/Stock: https://www.mouser.co.uk/ProductDetail/Bourns/PEC12R-4220F-S0024?qs=Zq5ylnUbLm7u%2FuPQvUoR4Q%3D%3D; Arrow Part Number: PEC12R-4220F-S0024; Arrow Price/Stock: https://www.arrow.com/en/products/pec12r-4220f-s0024/bourns
footprint PEC12R4220FS0024
footprint PEC12R4220FS0024_w_ang
pins: 1, 2, A, B, C, S GND
1 alternate drawing of the same symbol

## PESD2CAN
designator D?
PESD2CAN / CAN bus ESD protection diode; Manufacturer_Name: Nexperia; Manufacturer_Part_Number: PESD2CAN,215; Datasheet Link: http://de.rs-online.com/webdocs/0b4d/0900766b80b4dbb6.pdf; Height: 1.1mm; Mouser Part Number: 771-PESD2CAN-T/R; Mouser Price/Stock: https://www.mouser.co.uk/ProductDetail/Nexperia/PESD2CAN215?qs=LOCUfHb8d9sqg7TaLUP2JQ%3D%3D; Arrow Part Number: PESD2CAN,215; Arrow Price/Stock: https://www.arrow.com/en/products/pesd2can215/nexperia?region=nac
footprint SOT96P237X111-3N
pins: 1 CATHODE_1, 2 CATHODE_2, 3 COMMON_CATHODE

## R0603
designator R?, comment 0R
Resistor; Value: 0R; 0.1W: *
footprint R_0603 (Chip Resistor, EIA 0201, Metric 0603, Body 0.6 x 0.3mm, IPC Medium Density)
pins: 1, 2
text: 0603

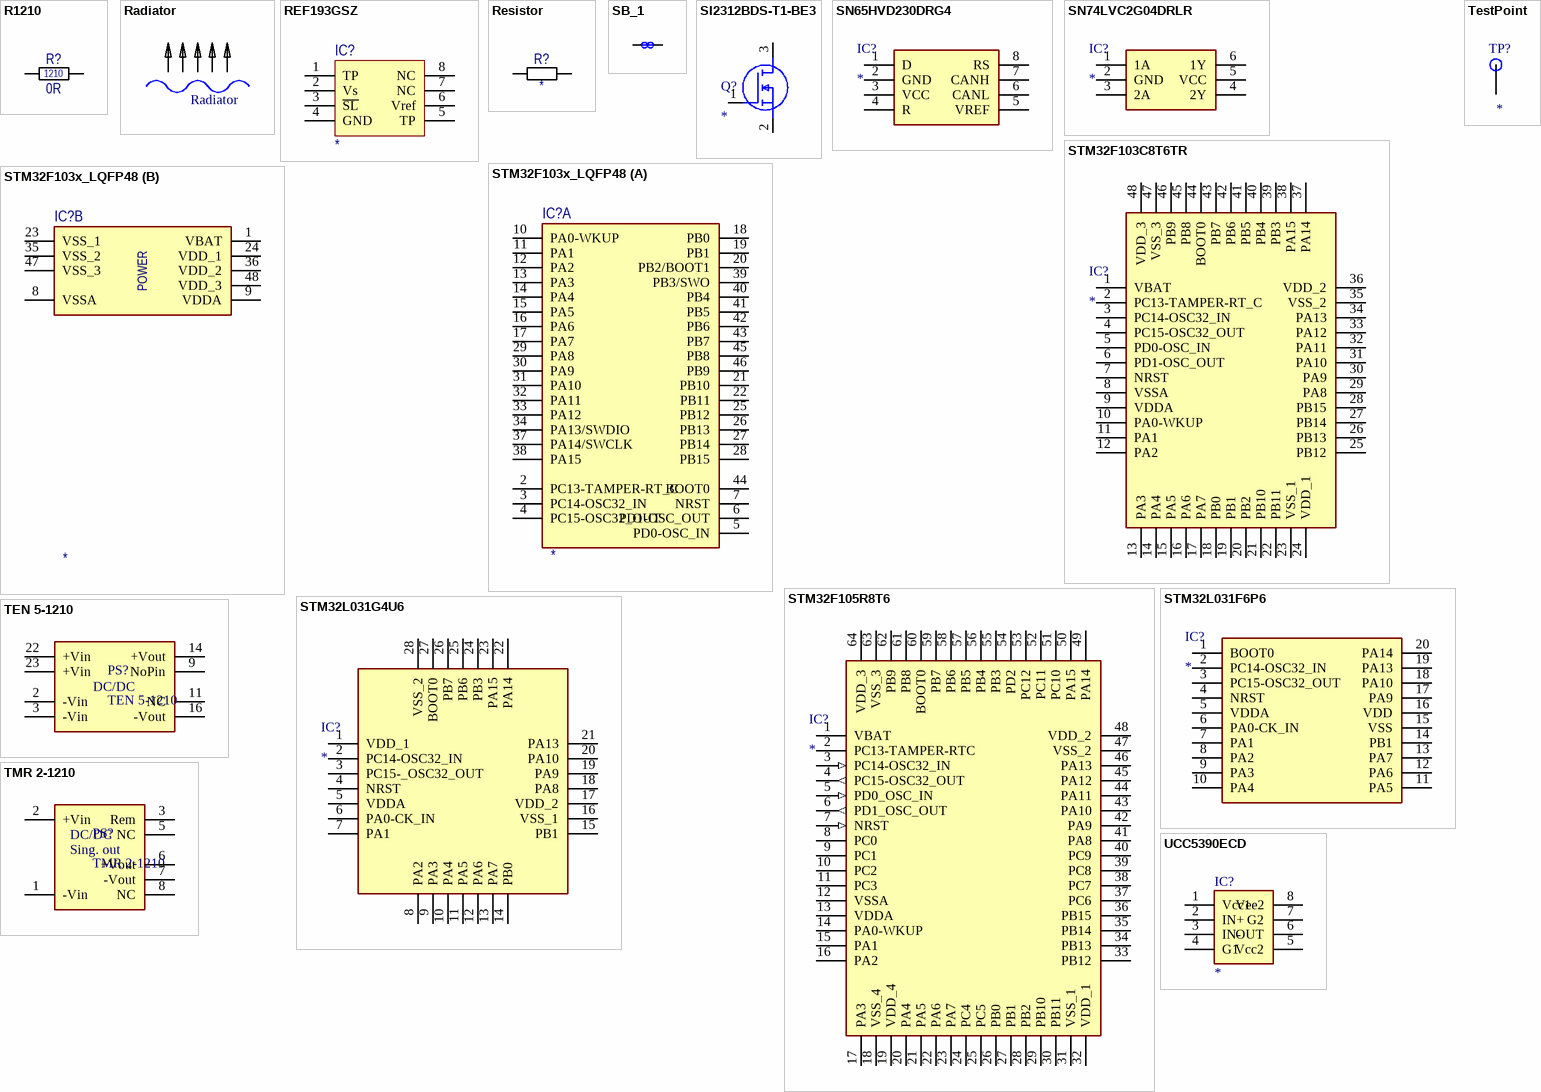
[diagram p2: symbols R1210 to UCC5390ECD]

## R1210
designator R?, comment 0R
Resistor; Value: 0R; 0.1W: *
footprint R_1210(3532)
pins: 1, 2
text: 1210

## Radiator
designator *
footprint Radiator-40x20x40

## REF193GSZ
designator IC?
Voltage Reference, 3.0V to 4.5V, Analog Devices
footprint SOIC127P600X175-8N
pins: 1 TP, 2 Vs, 3 ~{SL}, 4 GND, 5 TP, 6 Vref, 7 NC, 8 NC
1 alternate drawing of the same symbol

## Resistor
designator R?
Resistor; Value: *; 0.1W: *
footprint R_0603 (Chip Resistor, EIA 0201, Metric 0603, Body 0.6 x 0.3mm, IPC Medium Density)
pins: 1, 2
7 alternate drawings of the same symbol

## SB_1
designator SB?  (value not drawn)  (net tie, no BOM)
footprint SB_1(E)
footprint SB_1(CO)
footprint SB_1(>>)
footprint NetTie
pins: 1, 2
1 alternate drawing of the same symbol

## SI2312BDS-T1-BE3
designator Q?
MOSFET (N-Channel); Manufacturer_Name: Vishay; Manufacturer_Part_Number: SI2312BDS-T1-BE3; Datasheet Link: https://www.mouser.in/datasheet/2/427/VISH_S_A0010924773_1-2571514.pdf; Height: 1.12mm; Mouser Part Number: 78-SI2312BDS-T1-BE3; Mouser Price/Stock: https://www.mouser.co.uk/ProductDetail/Vishay-Siliconix/SI2312BDS-T1-BE3?qs=CiayqK2gdcLWl7ngxjbeYA%3D%3D; Arrow Part Number: SI2312BDS-T1-BE3; Arrow Price/Stock: https://www.arrow.com/en/products/si2312bds-t1-be3/vishay?region=nac
footprint SOT95P237X112-3N
pins: 1 G, 2 S, 3 D

## SN65HVD230DRG4
designator IC?
3.3 V CAN Transceiver with Standby Mode 8-SOIC -40 to 85; Manufacturer_Name: Texas Instruments; Manufacturer_Part_Number: SN65HVD230DRG4; Datasheet Link: http://www.ti.com/general/docs/suppproductinfo.tsp?distId=10&gotoUrl=http%3A%2F%2Fwww.ti.com%2Flit%2Fgpn%2Fsn65hvd230; Height: 1.75mm; Mouser Part Number: 595-SN65HVD230DRG4; Mouser Price/Stock: https://www.mouser.co.uk/ProductDetail/Texas-Instruments/SN65HVD230DRG4/?qs=QViXGNcIEAvg9uZlAursSA%3D%3D; Arrow Part Number: SN65HVD230DRG4; Arrow Price/Stock: https://www.arrow.com/en/products/sn65hvd230drg4/texas-instruments
footprint SOIC127P600X175-8N
pins: 1 D, 2 GND, 3 VCC, 4 R, 5 VREF, 6 CANL, 7 CANH, 8 RS

## SN74LVC2G04DRLR
designator IC?
2-ch, 1.65-V to 5.5-V inverters; Manufacturer_Name: Texas Instruments; Manufacturer_Part_Number: SN74LVC2G04DRLR; Datasheet Link: http://www.ti.com/lit/gpn/sn74lvc2g04; Height: 0.6mm; Mouser Part Number: 595-SN74LVC2G04DRLR; Mouser Price/Stock: https://www.mouser.co.uk/ProductDetail/Texas-Instruments/SN74LVC2G04DRLR?qs=pajgIaoyDUgGT9cUBVgEUw%3D%3D; Arrow Part Number: SN74LVC2G04DRLR; Arrow Price/Stock: https://www.arrow.com/en/products/sn74lvc2g04drlr/texas-instruments
footprint SOTFL50P160X60-6N
footprint SOT23-6
pins: 1 1A, 2 GND, 3 2A, 4 2Y, 5 VCC, 6 1Y
1 alternate drawing of the same symbol

## STM32F103C8T6TR
designator IC?
Integrated Circuit; Manufacturer_Name: STMicroelectronics; Manufacturer_Part_Number: STM32F103C8T6TR; Datasheet Link: http://media.digikey.com/pdf/Data%20Sheets/ST%20Microelectronics%20PDFS/STM32F103x8,B.pdf; Height: 1.6mm; Mouser Part Number: 511-STM32F103C8T6TR; Mouser Price/Stock: https://www.mouser.co.uk/ProductDetail/STMicroelectronics/STM32F103C8T6TR?qs=5HwTSiuA5HDxFj62n06yag%3D%3D; Arrow Part Number: STM32F103C8T6TR; Arrow Price/Stock: https://www.arrow.com/en/products/stm32f103c8t6tr/stmicroelectronics
footprint QFP50P900X900X160-48N
pins: 1 VBAT, 2 PC13-TAMPER-RT_C, 3 PC14-OSC32_IN, 4 PC15-OSC32_OUT, 5 PD0-OSC_IN, 6 PD1-OSC_OUT, 7 NRST, 8 VSSA, 9 VDDA, 10 PA0-WKUP, 11 PA1, 12 PA2, 13 PA3, 14 PA4, 15 PA5, 16 PA6, 17 PA7, 18 PB0, 19 PB1, 20 PB2, 21 PB10, 22 PB11, 23 VSS_1, 24 VDD_1, 25 PB12, 26 PB13, 27 PB14, 28 PB15, 29 PA8, 30 PA9, 31 PA10, 32 PA11, 33 PA12, 34 PA13, 35 VSS_2, 36 VDD_2, 37 PA14, 38 PA15, 39 PB3, 40 PB4, 41 PB5, 42 PB6, 43 PB7, 44 BOOT0, 45 PB8, 46 PB9, 47 VSS_3, 48 VDD_3
1 alternate drawing of the same symbol

## STM32F103x_LQFP48
designator IC?
footprint QFP50P900X900X160-48N
part A pins: 2 PC13-TAMPER-RT_C, 3 PC14-OSC32_IN, 4 PC15-OSC32_OUT, 5 PD0-OSC_IN, 6 PD1-OSC_OUT, 7 NRST, 10 PA0-WKUP, 11 PA1, 12 PA2, 13 PA3, 14 PA4, 15 PA5, 16 PA6, 17 PA7, 18 PB0, 19 PB1, 20 PB2/BOOT1, 21 PB10, 22 PB11, 25 PB12, 26 PB13, 27 PB14, 28 PB15, 29 PA8, 30 PA9, 31 PA10, 32 PA11, 33 PA12, 34 PA13/SWDIO, 37 PA14/SWCLK, 38 PA15, 39 PB3/SWO, 40 PB4, 41 PB5, 42 PB6, 43 PB7, 44 BOOT0, 45 PB8, 46 PB9
part B pins: 1 VBAT, 8 VSSA, 9 VDDA, 23 VSS_1, 24 VDD_1, 35 VSS_2, 36 VDD_2, 47 VSS_3, 48 VDD_3
part B text: POWER

## STM32F105R8T6
designator IC?
Integrated Circuit; Manufacturer_Name: STMicroelectronics; Manufacturer_Part_Number: STM32F105R8T6; Datasheet Link: http://www.st.com/st-web-ui/static/active/en/resource/technical/document/datasheet/CD00220364.pdf; Height: 1.6mm; Mouser Part Number: 511-STM32F105R8T6; Mouser Price/Stock: https://www.mouser.co.uk/ProductDetail/STMicroelectronics/STM32F105R8T6/?qs=1XJIe8X6XT24MwoK4mjh%2Fg%3D%3D; Arrow Part Number: STM32F105R8T6; Arrow Price/Stock: https://www.arrow.com/en/products/stm32f105r8t6/stmicroelectronics
footprint QFP50P1200X1200X160-64N
pins: 1 VBAT, 2 PC13-TAMPER-RTC, 3 PC14-OSC32_IN (in), 4 PC15-OSC32_OUT (out), 5 PD0_OSC_IN (in), 6 PD1_OSC_OUT (out), 7 NRST (in), 8 PC0, 9 PC1, 10 PC2, 11 PC3, 12 VSSA (power), 13 VDDA (power), 14 PA0-WKUP, 15 PA1, 16 PA2, 17 PA3, 18 VSS_4 (power), 19 VDD_4 (power), 20 PA4, 21 PA5, 22 PA6, 23 PA7, 24 PC4, 25 PC5, 26 PB0, 27 PB1, 28 PB2, 29 PB10, 30 PB11, 31 VSS_1 (power), 32 VDD_1 (power), 33 PB12, 34 PB13, 35 PB14, 36 PB15, 37 PC6, 38 PC7, 39 PC8, 40 PC9, 41 PA8, 42 PA9, 43 PA10, 44 PA11, 45 PA12, 46 PA13, 47 VSS_2 (power), 48 VDD_2 (power), 49 PA14, 50 PA15, 51 PC10, 52 PC11, 53 PC12, 54 PD2, 55 PB3, 56 PB4, 57 PB5, 58 PB6, 59 PB7, 60 BOOT0, 61 PB8, 62 PB9, 63 VSS_3 (power), 64 VDD_3 (power)

## STM32L031F6P6
designator IC?
Integrated Circuit; Manufacturer_Name: STMicroelectronics; Manufacturer_Part_Number: STM32L031F6P6; Datasheet Link: http://www.st.com/content/ccc/resource/technical/document/datasheet/aa/5d/77/ad/1a/59/4a/b9/DM00140359.pdf/files/DM00140359.pdf/jcr:content/translations/en.DM00140359.pdf; Height: 1.2mm; Mouser Part Number: 511-STM32L031F6P6; Mouser Price/Stock: https://www.mouser.co.uk/ProductDetail/STMicroelectronics/STM32L031F6P6/?qs=dTJS0cRn7ohDt6e1EJh76Q%3D%3D; Arrow Part Number: STM32L031F6P6; Arrow Price/Stock: https://www.arrow.com/en/products/stm32l031f6p6/stmicroelectronics
footprint SOP65P640X120-20N
pins: 1 BOOT0, 2 PC14-OSC32_IN, 3 PC15-OSC32_OUT, 4 NRST, 5 VDDA, 6 PA0-CK_IN, 7 PA1, 8 PA2, 9 PA3, 10 PA4, 11 PA5, 12 PA6, 13 PA7, 14 PB1, 15 VSS, 16 VDD, 17 PA9, 18 PA10, 19 PA13, 20 PA14

## STM32L031G4U6
designator IC?
Integrated Circuit; Manufacturer_Name: STMicroelectronics; Manufacturer_Part_Number: STM32L031G4U6; Datasheet Link: https://www.arrow.com/en/products/stm32l031g4u6/stmicroelectronics; Height: 0.6mm; Mouser Part Number: 511-STM32L031G4U6; Mouser Price/Stock: https://www.mouser.co.uk/ProductDetail/STMicroelectronics/STM32L031G4U6?qs=dTJS0cRn7og%2FRNJGwymdwA%3D%3D; Arrow Part Number: STM32L031G4U6; Arrow Price/Stock: https://www.arrow.com/en/products/stm32l031g4u6/stmicroelectronics
footprint QFN50P400X400X60-28N-D
pins: 1 VDD_1, 2 PC14-OSC32_IN, 3 PC15-_OSC32_OUT, 4 NRST, 5 VDDA, 6 PA0-CK_IN, 7 PA1, 8 PA2, 9 PA3, 10 PA4, 11 PA5, 12 PA6, 13 PA7, 14 PB0, 15 PB1, 16 VSS_1, 17 VDD_2, 18 PA8, 19 PA9, 20 PA10, 21 PA13, 22 PA14, 23 PA15, 24 PB3, 25 PB6, 26 PB7, 27 BOOT0, 28 VSS_2

## TEN 5-1210
designator PS?
Traco Power DC/DC Converter TEN 5 Series, 6 Watt
footprint TEN_5_Double (DC/DC Converters  TEN 5 Series, 6 Watt)
footprint TEN_5_Single (DC/DC Converters  TEN 5 Series, 6 Watt)
pins: 2 -Vin (power), 3 -Vin (power), 9 NoPin (power), 11 NC (power), 14 +Vout (power), 16 -Vout (power), 22 +Vin (power), 23 +Vin (power)
1 alternate drawing of the same symbol
text: DC/DC

## TestPoint
designator TP?
footprint TestPoint
pins: 1

## TMR 2-1210
designator PS?
Traco Power DC/DC Converter TMR 2 Series, 2 Watt
footprint TMR_2 (DC/DC Converters  TMR 2 Series, 2 Watt)
pins: 1 -Vin (power), 2 +Vin (power), 3 Rem (power), 5 NC (power), 6 +Vout (power), 7 -Vout (power), 8 NC (power)
1 alternate drawing of the same symbol
text: DC/DC; Sing. out

## UCC5390ECD
designator IC?
Integrated Circuit; Manufacturer_Name: Texas Instruments; Manufacturer_Part_Number: UCC5390ECD; Datasheet Link: http://www.ti.com/lit/gpn/UCC5390; Height: 1.75mm; Mouser Part Number: 595-UCC5390ECD; Mouser Price/Stock: https://www.mouser.co.uk/ProductDetail/Texas-Instruments/UCC5390ECD?qs=BZBei1rCqCCRNJU5YNcuog%3D%3D; Arrow Part Number: UCC5390ECD; Arrow Price/Stock: https://www.arrow.com/en/products/ucc5390ecd/texas-instruments
footprint SOIC127P600X175-8N
pins: 1 Vcc1, 2 IN+, 3 IN-, 4 G1, 5 Vcc2, 6 OUT, 7 G2, 8 Vee2
1 alternate drawing of the same symbol